# Altium integrated library BFP420.IntLib: 1 symbol
Pins are listed as number, name and electrical type; pins without a type are passive.

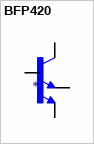
[diagram p0: symbol BFP420]

## BFP420
designator ?
RF Transistor NPN 5.5V 35mA 25GHz 160mW Surface Mount 4-TSFP; MF: Infineon Technologies; MP: BFP420; Price: None; Package: SOT-343 Infineon; Value: *; SnapEDA_Link: https://www.snapeda.com/parts/BFP420/Infineon%20Technologies/view-part/453358/?ref=snap; Availability: Unavailable
footprint SOT343
pins: 1 B, 2 E1, 3 C, 4 E2